# Altium footprint library Analog Devices Data Converters Analog-to-Digital Converters.PcbLib: 279 footprints (part 17 of 18)
Each footprint in its own frame and in the unit in brackets; x right, y up, seen from the top. Pads: shape width x height; smd on the part's side, far side on the other; paste and mask are expansions set on the pad; w line width, h text height; cw(c..) or ccw(c..) is an arc to the next point about the centre after c.
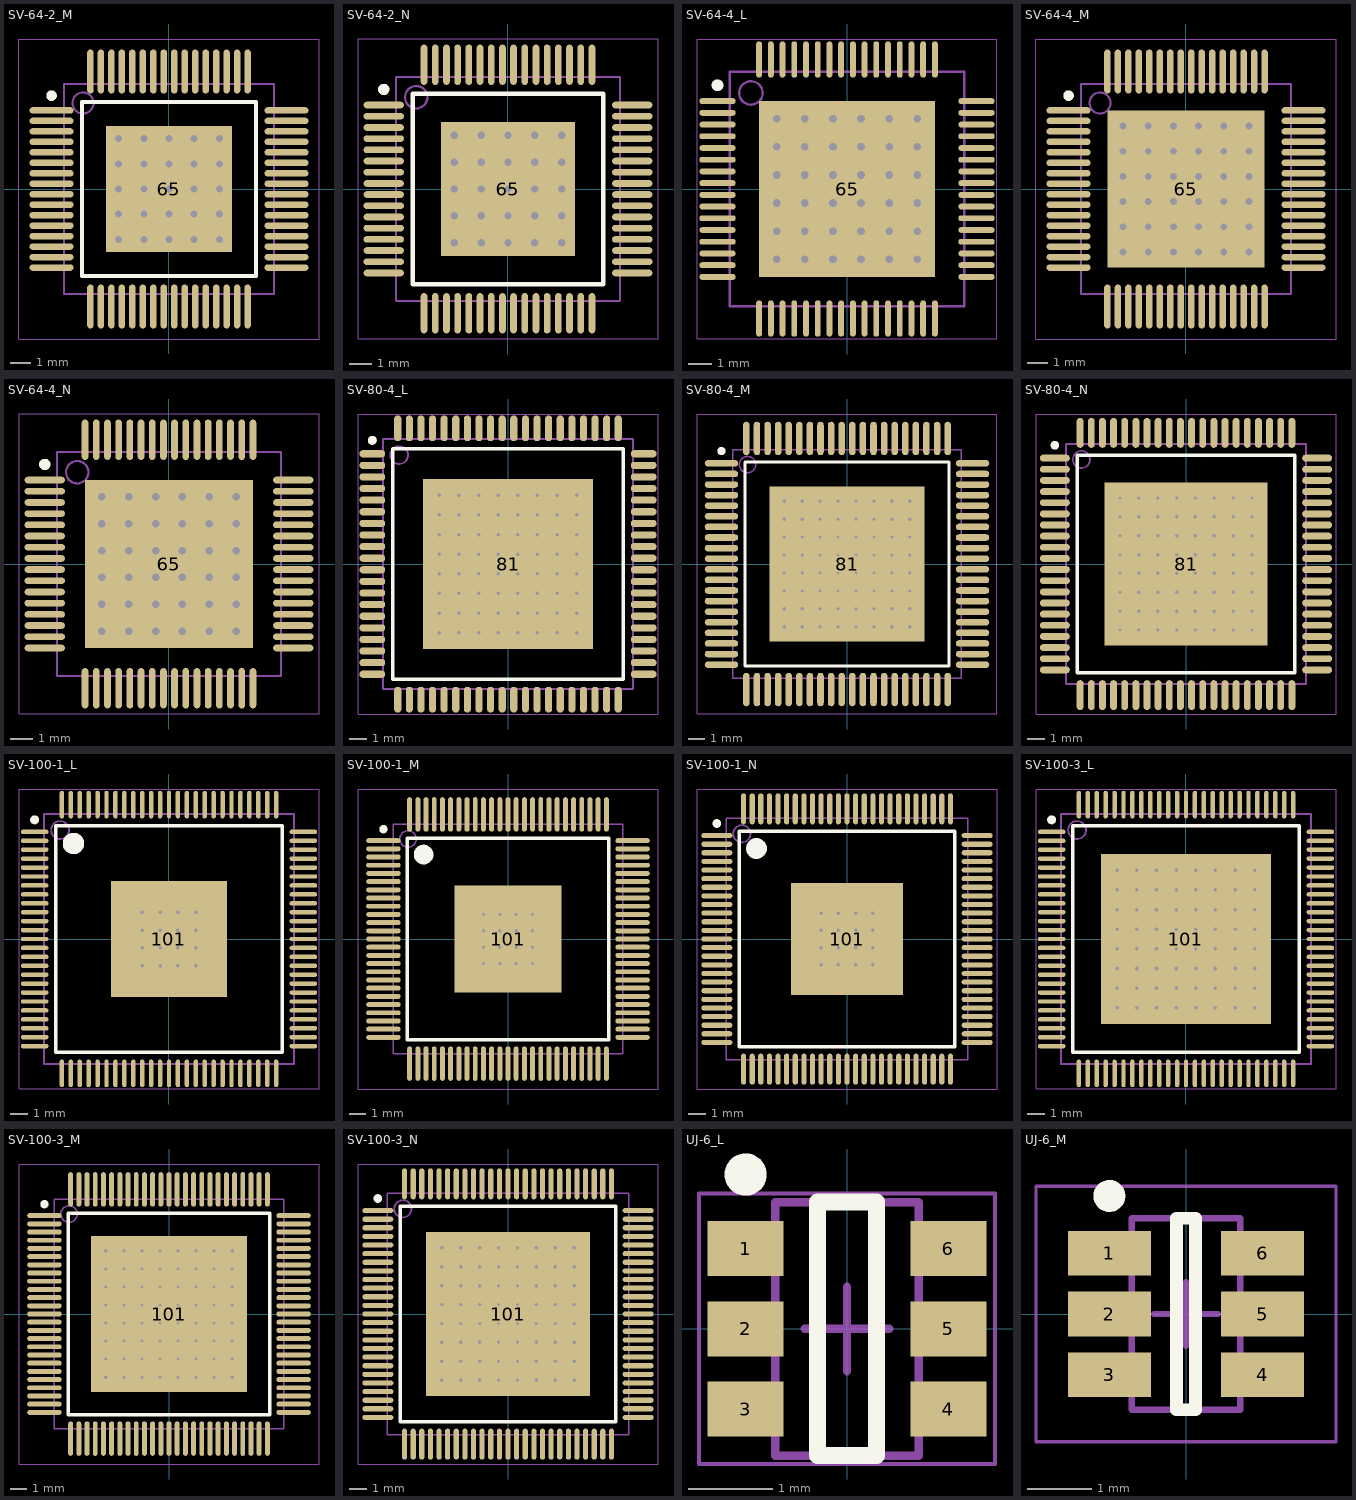
[diagram p16: the footprints below, top view; thin cyan lines are the x and y axes]

## SV-64-2_M [mm] "Thin QFP, 64-Leads, Body 10x10mm, Pitch 0.5mm, Thermal Pad 6.0x6.0mm, IPC Low Density"
height 1.2
pads (65):
  oval 2.1x0.3 smd: 1(-5.6,3.75) 2(-5.6,3.25) 3(-5.6,2.75) 4(-5.6,2.25) 5(-5.6,1.75) 6(-5.6,1.25) 7(-5.6,0.75) 8(-5.6,0.25) 9(-5.6,-0.25) 10(-5.6,-0.75) 11(-5.6,-1.25) 12(-5.6,-1.75) 13(-5.6,-2.25) 14(-5.6,-2.75) 15(-5.6,-3.25) 16(-5.6,-3.75) 33(5.6,-3.75) 34(5.6,-3.25) 35(5.6,-2.75) 36(5.6,-2.25) 37(5.6,-1.75) 38(5.6,-1.25) 39(5.6,-0.75) 40(5.6,-0.25) 41(5.6,0.25) 42(5.6,0.75) 43(5.6,1.25) 44(5.6,1.75) 45(5.6,2.25) 46(5.6,2.75) 47(5.6,3.25) 48(5.6,3.75)
  oval 0.3x2.1 smd: 17(-3.75,-5.6) 18(-3.25,-5.6) 19(-2.75,-5.6) 20(-2.25,-5.6) 21(-1.75,-5.6) 22(-1.25,-5.6) 23(-0.75,-5.6) 24(-0.25,-5.6) 25(0.25,-5.6) 26(0.75,-5.6) 27(1.25,-5.6) 28(1.75,-5.6) 29(2.25,-5.6) 30(2.75,-5.6) 31(3.25,-5.6) 32(3.75,-5.6) 49(3.75,5.6) 50(3.25,5.6) 51(2.75,5.6) 52(2.25,5.6) 53(1.75,5.6) 54(1.25,5.6) 55(0.75,5.6) 56(0.25,5.6) 57(-0.25,5.6) 58(-0.75,5.6) 59(-1.25,5.6) 60(-1.75,5.6) 61(-2.25,5.6) 62(-2.75,5.6) 63(-3.25,5.6) 64(-3.75,5.6)
  rect 6x6 smd: 65(0,0)
via 1.2,-2.4 diameter 0.66 hole 0.33
via 0,-2.4 diameter 0.66 hole 0.33
via -1.2,-2.4 diameter 0.66 hole 0.33
via -2.4,-2.4 diameter 0.66 hole 0.33
via 2.4,-2.4 diameter 0.66 hole 0.33
via 2.4,-1.2 diameter 0.66 hole 0.33
via 2.4,0 diameter 0.66 hole 0.33
via 2.4,1.2 diameter 0.66 hole 0.33
via 2.4,2.4 diameter 0.66 hole 0.33
via -2.4,2.4 diameter 0.66 hole 0.33
via -1.2,2.4 diameter 0.66 hole 0.33
via 0,2.4 diameter 0.66 hole 0.33
via 1.2,2.4 diameter 0.66 hole 0.33
via -2.4,1.2 diameter 0.66 hole 0.33
via -1.2,1.2 diameter 0.66 hole 0.33
via 0,1.2 diameter 0.66 hole 0.33
via 1.2,1.2 diameter 0.66 hole 0.33
via -2.4,0 diameter 0.66 hole 0.33
via -1.2,0 diameter 0.66 hole 0.33
via 0,0 diameter 0.66 hole 0.33
via 1.2,0 diameter 0.66 hole 0.33
via -2.4,-1.2 diameter 0.66 hole 0.33
via -1.2,-1.2 diameter 0.66 hole 0.33
via 0,-1.2 diameter 0.66 hole 0.33
via 1.2,-1.2 diameter 0.66 hole 0.33
Top Overlay:
  circle w0.25: c-5.6,4.45 r0.125
  lines w0.2: -4.15,-4.15 -4.15,4.15 4.15,4.15 4.15,-4.15 -4.15,-4.15
Mechanical 13:
  circle w0.1: c-4.1,4.1 r0.5
  lines w0.1: -5,-5 -5,5 5,5 5,-5 -5,-5
Mechanical 15:
  lines w0.05: -7.15,-7.15 -7.15,7.15 7.15,7.15 7.15,-7.15 -7.15,-7.15
  lines w0.1: -0.5,0 0.5,0 ; 0,-0.5 0,0.5
3D body: height 1.2, standoff 0, extent -5,-5 5,5

## SV-64-2_N [mm] "Thin QFP, 64-Leads, Body 10x10mm, Pitch 0.5mm, Thermal Pad 6.0x6.0mm, IPC Medium Density"
height 1.2
pads (65):
  oval 1.8x0.3 smd: 1(-5.55,3.75) 2(-5.55,3.25) 3(-5.55,2.75) 4(-5.55,2.25) 5(-5.55,1.75) 6(-5.55,1.25) 7(-5.55,0.75) 8(-5.55,0.25) 9(-5.55,-0.25) 10(-5.55,-0.75) 11(-5.55,-1.25) 12(-5.55,-1.75) 13(-5.55,-2.25) 14(-5.55,-2.75) 15(-5.55,-3.25) 16(-5.55,-3.75) 33(5.55,-3.75) 34(5.55,-3.25) 35(5.55,-2.75) 36(5.55,-2.25) 37(5.55,-1.75) 38(5.55,-1.25) 39(5.55,-0.75) 40(5.55,-0.25) 41(5.55,0.25) 42(5.55,0.75) 43(5.55,1.25) 44(5.55,1.75) 45(5.55,2.25) 46(5.55,2.75) 47(5.55,3.25) 48(5.55,3.75)
  oval 0.3x1.8 smd: 17(-3.75,-5.55) 18(-3.25,-5.55) 19(-2.75,-5.55) 20(-2.25,-5.55) 21(-1.75,-5.55) 22(-1.25,-5.55) 23(-0.75,-5.55) 24(-0.25,-5.55) 25(0.25,-5.55) 26(0.75,-5.55) 27(1.25,-5.55) 28(1.75,-5.55) 29(2.25,-5.55) 30(2.75,-5.55) 31(3.25,-5.55) 32(3.75,-5.55) 49(3.75,5.55) 50(3.25,5.55) 51(2.75,5.55) 52(2.25,5.55) 53(1.75,5.55) 54(1.25,5.55) 55(0.75,5.55) 56(0.25,5.55) 57(-0.25,5.55) 58(-0.75,5.55) 59(-1.25,5.55) 60(-1.75,5.55) 61(-2.25,5.55) 62(-2.75,5.55) 63(-3.25,5.55) 64(-3.75,5.55)
  rect 6x6 smd: 65(0,0)
via 1.2,-2.4 diameter 0.66 hole 0.33
via 0,-2.4 diameter 0.66 hole 0.33
via -1.2,-2.4 diameter 0.66 hole 0.33
via -2.4,-2.4 diameter 0.66 hole 0.33
via 2.4,-2.4 diameter 0.66 hole 0.33
via 2.4,-1.2 diameter 0.66 hole 0.33
via 2.4,0 diameter 0.66 hole 0.33
via 2.4,1.2 diameter 0.66 hole 0.33
via 2.4,2.4 diameter 0.66 hole 0.33
via -2.4,2.4 diameter 0.66 hole 0.33
via -1.2,2.4 diameter 0.66 hole 0.33
via 0,2.4 diameter 0.66 hole 0.33
via 1.2,2.4 diameter 0.66 hole 0.33
via -2.4,1.2 diameter 0.66 hole 0.33
via -1.2,1.2 diameter 0.66 hole 0.33
via 0,1.2 diameter 0.66 hole 0.33
via 1.2,1.2 diameter 0.66 hole 0.33
via -2.4,0 diameter 0.66 hole 0.33
via -1.2,0 diameter 0.66 hole 0.33
via 0,0 diameter 0.66 hole 0.33
via 1.2,0 diameter 0.66 hole 0.33
via -2.4,-1.2 diameter 0.66 hole 0.33
via -1.2,-1.2 diameter 0.66 hole 0.33
via 0,-1.2 diameter 0.66 hole 0.33
via 1.2,-1.2 diameter 0.66 hole 0.33
Top Overlay:
  circle w0.25: c-5.55,4.45 r0.125
  lines w0.2: -4.25,-4.25 4.25,-4.25 4.25,4.25 -4.25,4.25 -4.25,-4.25
Mechanical 13:
  circle w0.1: c-4.1,4.1 r0.5
  lines w0.1: -5,-5 5,-5 5,5 -5,5 -5,-5
Mechanical 15:
  lines w0.05: -6.7,-6.7 6.7,-6.7 6.7,6.7 -6.7,6.7 -6.7,-6.7
  lines w0.1: -0.5,0 0.5,0 ; 0,-0.5 0,0.5
3D body: height 1.2, standoff 0, extent -5,-5 5,5

## SV-64-4_L [mm] "Thin QFP, 64-Leads, Body 10x10mm, Pitch 0.5mm, Thermal Pad 7.5x7.5mm, IPC High Density"
height 1.2
pads (65):
  oval 1.55x0.25 smd: 1(-5.525,3.75) 2(-5.525,3.25) 3(-5.525,2.75) 4(-5.525,2.25) 5(-5.525,1.75) 6(-5.525,1.25) 7(-5.525,0.75) 8(-5.525,0.25) 9(-5.525,-0.25) 10(-5.525,-0.75) 11(-5.525,-1.25) 12(-5.525,-1.75) 13(-5.525,-2.25) 14(-5.525,-2.75) 15(-5.525,-3.25) 16(-5.525,-3.75) 33(5.525,-3.75) 34(5.525,-3.25) 35(5.525,-2.75) 36(5.525,-2.25) 37(5.525,-1.75) 38(5.525,-1.25) 39(5.525,-0.75) 40(5.525,-0.25) 41(5.525,0.25) 42(5.525,0.75) 43(5.525,1.25) 44(5.525,1.75) 45(5.525,2.25) 46(5.525,2.75) 47(5.525,3.25) 48(5.525,3.75)
  oval 0.25x1.55 smd: 17(-3.75,-5.525) 18(-3.25,-5.525) 19(-2.75,-5.525) 20(-2.25,-5.525) 21(-1.75,-5.525) 22(-1.25,-5.525) 23(-0.75,-5.525) 24(-0.25,-5.525) 25(0.25,-5.525) 26(0.75,-5.525) 27(1.25,-5.525) 28(1.75,-5.525) 29(2.25,-5.525) 30(2.75,-5.525) 31(3.25,-5.525) 32(3.75,-5.525) 49(3.75,5.525) 50(3.25,5.525) 51(2.75,5.525) 52(2.25,5.525) 53(1.75,5.525) 54(1.25,5.525) 55(0.75,5.525) 56(0.25,5.525) 57(-0.25,5.525) 58(-0.75,5.525) 59(-1.25,5.525) 60(-1.75,5.525) 61(-2.25,5.525) 62(-2.75,5.525) 63(-3.25,5.525) 64(-3.75,5.525)
  rect 7.5x7.5 smd: 65(0,0)
via 0.6,-0.6 diameter 0.66 hole 0.33
via -0.6,-0.6 diameter 0.66 hole 0.33
via -1.8,-0.6 diameter 0.66 hole 0.33
via -3,-0.6 diameter 0.66 hole 0.33
via 0.6,0.6 diameter 0.66 hole 0.33
via -0.6,0.6 diameter 0.66 hole 0.33
via -1.8,0.6 diameter 0.66 hole 0.33
via -3,0.6 diameter 0.66 hole 0.33
via 0.6,1.8 diameter 0.66 hole 0.33
via -0.6,1.8 diameter 0.66 hole 0.33
via -1.8,1.8 diameter 0.66 hole 0.33
via -3,1.8 diameter 0.66 hole 0.33
via 0.6,3 diameter 0.66 hole 0.33
via -0.6,3 diameter 0.66 hole 0.33
via -1.8,3 diameter 0.66 hole 0.33
via -3,3 diameter 0.66 hole 0.33
via 1.8,3 diameter 0.66 hole 0.33
via 1.8,1.8 diameter 0.66 hole 0.33
via 1.8,0.6 diameter 0.66 hole 0.33
via 1.8,-0.6 diameter 0.66 hole 0.33
via 1.8,-1.8 diameter 0.66 hole 0.33
via -3,-1.8 diameter 0.66 hole 0.33
via -1.8,-1.8 diameter 0.66 hole 0.33
via -0.6,-1.8 diameter 0.66 hole 0.33
via 0.6,-1.8 diameter 0.66 hole 0.33
via 3,-1.8 diameter 0.66 hole 0.33
via 3,3 diameter 0.66 hole 0.33
via 3,1.8 diameter 0.66 hole 0.33
via 3,0.6 diameter 0.66 hole 0.33
via 3,-0.6 diameter 0.66 hole 0.33
via 3,-3 diameter 0.66 hole 0.33
via 0.6,-3 diameter 0.66 hole 0.33
via -0.6,-3 diameter 0.66 hole 0.33
via -1.8,-3 diameter 0.66 hole 0.33
via -3,-3 diameter 0.66 hole 0.33
via 1.8,-3 diameter 0.66 hole 0.33
Top Overlay:
  circle w0.25: c-5.525,4.425 r0.125
Mechanical 13:
  circle w0.1: c-4.1,4.1 r0.5
  lines w0.1: -5,-5 -5,5 5,5 5,-5 -5,-5
Mechanical 15:
  lines w0.05: -6.4,-6.4 -6.4,6.4 6.4,6.4 6.4,-6.4 -6.4,-6.4
  lines w0.1: -0.5,0 0.5,0 ; 0,-0.5 0,0.5
3D body: height 1.2, standoff 0.05, extent -5,-5 5,5

## SV-64-4_M [mm] "Thin QFP, 64-Leads, Body 10x10mm, Pitch 0.5mm, Thermal Pad 7.5x7.5mm, IPC Low Density"
height 1.2
pads (65):
  oval 2.1x0.3 smd: 1(-5.6,3.75) 2(-5.6,3.25) 3(-5.6,2.75) 4(-5.6,2.25) 5(-5.6,1.75) 6(-5.6,1.25) 7(-5.6,0.75) 8(-5.6,0.25) 9(-5.6,-0.25) 10(-5.6,-0.75) 11(-5.6,-1.25) 12(-5.6,-1.75) 13(-5.6,-2.25) 14(-5.6,-2.75) 15(-5.6,-3.25) 16(-5.6,-3.75) 33(5.6,-3.75) 34(5.6,-3.25) 35(5.6,-2.75) 36(5.6,-2.25) 37(5.6,-1.75) 38(5.6,-1.25) 39(5.6,-0.75) 40(5.6,-0.25) 41(5.6,0.25) 42(5.6,0.75) 43(5.6,1.25) 44(5.6,1.75) 45(5.6,2.25) 46(5.6,2.75) 47(5.6,3.25) 48(5.6,3.75)
  oval 0.3x2.1 smd: 17(-3.75,-5.6) 18(-3.25,-5.6) 19(-2.75,-5.6) 20(-2.25,-5.6) 21(-1.75,-5.6) 22(-1.25,-5.6) 23(-0.75,-5.6) 24(-0.25,-5.6) 25(0.25,-5.6) 26(0.75,-5.6) 27(1.25,-5.6) 28(1.75,-5.6) 29(2.25,-5.6) 30(2.75,-5.6) 31(3.25,-5.6) 32(3.75,-5.6) 49(3.75,5.6) 50(3.25,5.6) 51(2.75,5.6) 52(2.25,5.6) 53(1.75,5.6) 54(1.25,5.6) 55(0.75,5.6) 56(0.25,5.6) 57(-0.25,5.6) 58(-0.75,5.6) 59(-1.25,5.6) 60(-1.75,5.6) 61(-2.25,5.6) 62(-2.75,5.6) 63(-3.25,5.6) 64(-3.75,5.6)
  rect 7.5x7.5 smd: 65(0,0)
via 0.6,-0.6 diameter 0.66 hole 0.33
via -0.6,-0.6 diameter 0.66 hole 0.33
via -1.8,-0.6 diameter 0.66 hole 0.33
via -3,-0.6 diameter 0.66 hole 0.33
via 0.6,0.6 diameter 0.66 hole 0.33
via -0.6,0.6 diameter 0.66 hole 0.33
via -1.8,0.6 diameter 0.66 hole 0.33
via -3,0.6 diameter 0.66 hole 0.33
via 0.6,1.8 diameter 0.66 hole 0.33
via -0.6,1.8 diameter 0.66 hole 0.33
via -1.8,1.8 diameter 0.66 hole 0.33
via -3,1.8 diameter 0.66 hole 0.33
via 0.6,3 diameter 0.66 hole 0.33
via -0.6,3 diameter 0.66 hole 0.33
via -1.8,3 diameter 0.66 hole 0.33
via -3,3 diameter 0.66 hole 0.33
via 1.8,3 diameter 0.66 hole 0.33
via 1.8,1.8 diameter 0.66 hole 0.33
via 1.8,0.6 diameter 0.66 hole 0.33
via 1.8,-0.6 diameter 0.66 hole 0.33
via 1.8,-1.8 diameter 0.66 hole 0.33
via -3,-1.8 diameter 0.66 hole 0.33
via -1.8,-1.8 diameter 0.66 hole 0.33
via -0.6,-1.8 diameter 0.66 hole 0.33
via 0.6,-1.8 diameter 0.66 hole 0.33
via 3,-1.8 diameter 0.66 hole 0.33
via 3,3 diameter 0.66 hole 0.33
via 3,1.8 diameter 0.66 hole 0.33
via 3,0.6 diameter 0.66 hole 0.33
via 3,-0.6 diameter 0.66 hole 0.33
via 3,-3 diameter 0.66 hole 0.33
via 0.6,-3 diameter 0.66 hole 0.33
via -0.6,-3 diameter 0.66 hole 0.33
via -1.8,-3 diameter 0.66 hole 0.33
via -3,-3 diameter 0.66 hole 0.33
via 1.8,-3 diameter 0.66 hole 0.33
Top Overlay:
  circle w0.25: c-5.6,4.45 r0.125
Mechanical 13:
  circle w0.1: c-4.1,4.1 r0.5
  lines w0.1: -5,-5 -5,5 5,5 5,-5 -5,-5
Mechanical 15:
  lines w0.05: -7.15,-7.15 -7.15,7.15 7.15,7.15 7.15,-7.15 -7.15,-7.15
  lines w0.1: -0.5,0 0.5,0 ; 0,-0.5 0,0.5
3D body: height 1.2, standoff 0.05, extent -5,-5 5,5

## SV-64-4_N [mm] "Thin QFP, 64-Leads, Body 10x10mm, Pitch 0.5mm, Thermal Pad 7.5x7.5mm, IPC Medium Density"
height 1.2
pads (65):
  oval 1.8x0.3 smd: 1(-5.55,3.75) 2(-5.55,3.25) 3(-5.55,2.75) 4(-5.55,2.25) 5(-5.55,1.75) 6(-5.55,1.25) 7(-5.55,0.75) 8(-5.55,0.25) 9(-5.55,-0.25) 10(-5.55,-0.75) 11(-5.55,-1.25) 12(-5.55,-1.75) 13(-5.55,-2.25) 14(-5.55,-2.75) 15(-5.55,-3.25) 16(-5.55,-3.75) 33(5.55,-3.75) 34(5.55,-3.25) 35(5.55,-2.75) 36(5.55,-2.25) 37(5.55,-1.75) 38(5.55,-1.25) 39(5.55,-0.75) 40(5.55,-0.25) 41(5.55,0.25) 42(5.55,0.75) 43(5.55,1.25) 44(5.55,1.75) 45(5.55,2.25) 46(5.55,2.75) 47(5.55,3.25) 48(5.55,3.75)
  oval 0.3x1.8 smd: 17(-3.75,-5.55) 18(-3.25,-5.55) 19(-2.75,-5.55) 20(-2.25,-5.55) 21(-1.75,-5.55) 22(-1.25,-5.55) 23(-0.75,-5.55) 24(-0.25,-5.55) 25(0.25,-5.55) 26(0.75,-5.55) 27(1.25,-5.55) 28(1.75,-5.55) 29(2.25,-5.55) 30(2.75,-5.55) 31(3.25,-5.55) 32(3.75,-5.55) 49(3.75,5.55) 50(3.25,5.55) 51(2.75,5.55) 52(2.25,5.55) 53(1.75,5.55) 54(1.25,5.55) 55(0.75,5.55) 56(0.25,5.55) 57(-0.25,5.55) 58(-0.75,5.55) 59(-1.25,5.55) 60(-1.75,5.55) 61(-2.25,5.55) 62(-2.75,5.55) 63(-3.25,5.55) 64(-3.75,5.55)
  rect 7.5x7.5 smd: 65(0,0)
via 1.8,-3 diameter 0.66 hole 0.33
via -3,-3 diameter 0.66 hole 0.33
via -1.8,-3 diameter 0.66 hole 0.33
via -0.6,-3 diameter 0.66 hole 0.33
via 0.6,-3 diameter 0.66 hole 0.33
via 3,-3 diameter 0.66 hole 0.33
via 3,-0.6 diameter 0.66 hole 0.33
via 3,0.6 diameter 0.66 hole 0.33
via 3,1.8 diameter 0.66 hole 0.33
via 3,3 diameter 0.66 hole 0.33
via 3,-1.8 diameter 0.66 hole 0.33
via 0.6,-1.8 diameter 0.66 hole 0.33
via -0.6,-1.8 diameter 0.66 hole 0.33
via -1.8,-1.8 diameter 0.66 hole 0.33
via -3,-1.8 diameter 0.66 hole 0.33
via 1.8,-1.8 diameter 0.66 hole 0.33
via 1.8,-0.6 diameter 0.66 hole 0.33
via 1.8,0.6 diameter 0.66 hole 0.33
via 1.8,1.8 diameter 0.66 hole 0.33
via 1.8,3 diameter 0.66 hole 0.33
via -3,3 diameter 0.66 hole 0.33
via -1.8,3 diameter 0.66 hole 0.33
via -0.6,3 diameter 0.66 hole 0.33
via 0.6,3 diameter 0.66 hole 0.33
via -3,1.8 diameter 0.66 hole 0.33
via -1.8,1.8 diameter 0.66 hole 0.33
via -0.6,1.8 diameter 0.66 hole 0.33
via 0.6,1.8 diameter 0.66 hole 0.33
via -3,0.6 diameter 0.66 hole 0.33
via -1.8,0.6 diameter 0.66 hole 0.33
via -0.6,0.6 diameter 0.66 hole 0.33
via 0.6,0.6 diameter 0.66 hole 0.33
via -3,-0.6 diameter 0.66 hole 0.33
via -1.8,-0.6 diameter 0.66 hole 0.33
via -0.6,-0.6 diameter 0.66 hole 0.33
via 0.6,-0.6 diameter 0.66 hole 0.33
Top Overlay:
  circle w0.25: c-5.55,4.45 r0.125
Mechanical 13:
  circle w0.1: c-4.1,4.1 r0.5
  lines w0.1: -5,-5 -5,5 5,5 5,-5 -5,-5
Mechanical 15:
  lines w0.05: -6.7,-6.7 -6.7,6.7 6.7,6.7 6.7,-6.7 -6.7,-6.7
  lines w0.1: -0.5,0 0.5,0 ; 0,-0.5 0,0.5
3D body: height 1.2, standoff 0.05, extent -5,-5 5,5

## SV-80-4_L [mm] "Thin QFP, 80-Leads, Body 14 x 14mm, Pitch 0.65mm, Thermal Pad 9.5x9.5mm, IPC High Density"
height 1.2
pads (81):
  oval 1.45x0.4 smd: 1(-7.6,6.175) 2(-7.6,5.525) 3(-7.6,4.875) 4(-7.6,4.225) 5(-7.6,3.575) 6(-7.6,2.925) 7(-7.6,2.275) 8(-7.6,1.625) 9(-7.6,0.975) 10(-7.6,0.325) 11(-7.6,-0.325) 12(-7.6,-0.975) 13(-7.6,-1.625) 14(-7.6,-2.275) 15(-7.6,-2.925) 16(-7.6,-3.575) 17(-7.6,-4.225) 18(-7.6,-4.875) 19(-7.6,-5.525) 20(-7.6,-6.175) 41(7.6,-6.175) 42(7.6,-5.525) 43(7.6,-4.875) 44(7.6,-4.225) 45(7.6,-3.575) 46(7.6,-2.925) 47(7.6,-2.275) 48(7.6,-1.625) 49(7.6,-0.975) 50(7.6,-0.325) 51(7.6,0.325) 52(7.6,0.975) 53(7.6,1.625) 54(7.6,2.275) 55(7.6,2.925) 56(7.6,3.575) 57(7.6,4.225) 58(7.6,4.875) 59(7.6,5.525) 60(7.6,6.175)
  oval 0.4x1.45 smd: 21(-6.175,-7.6) 22(-5.525,-7.6) 23(-4.875,-7.6) 24(-4.225,-7.6) 25(-3.575,-7.6) 26(-2.925,-7.6) 27(-2.275,-7.6) 28(-1.625,-7.6) 29(-0.975,-7.6) 30(-0.325,-7.6) 31(0.325,-7.6) 32(0.975,-7.6) 33(1.625,-7.6) 34(2.275,-7.6) 35(2.925,-7.6) 36(3.575,-7.6) 37(4.225,-7.6) 38(4.875,-7.6) 39(5.525,-7.6) 40(6.175,-7.6) 61(6.175,7.6) 62(5.525,7.6) 63(4.875,7.6) 64(4.225,7.6) 65(3.575,7.6) 66(2.925,7.6) 67(2.275,7.6) 68(1.625,7.6) 69(0.975,7.6) 70(0.325,7.6) 71(-0.325,7.6) 72(-0.975,7.6) 73(-1.625,7.6) 74(-2.275,7.6) 75(-2.925,7.6) 76(-3.575,7.6) 77(-4.225,7.6) 78(-4.875,7.6) 79(-5.525,7.6) 80(-6.175,7.6)
  rect 9.5x9.5 smd: 81(0,0)
via -3.85,0.55 diameter 0.5 hole 0.2
via -3.85,-0.55 diameter 0.5 hole 0.2
via -3.85,1.65 diameter 0.5 hole 0.2
via -3.85,2.75 diameter 0.5 hole 0.2
via -3.85,3.85 diameter 0.5 hole 0.2
via -3.85,-1.65 diameter 0.5 hole 0.2
via -3.85,-2.75 diameter 0.5 hole 0.2
via -3.85,-3.85 diameter 0.5 hole 0.2
via -2.75,-3.85 diameter 0.5 hole 0.2
via -2.75,-2.75 diameter 0.5 hole 0.2
via -2.75,-1.65 diameter 0.5 hole 0.2
via -2.75,-0.55 diameter 0.5 hole 0.2
via -2.75,0.55 diameter 0.5 hole 0.2
via -2.75,1.65 diameter 0.5 hole 0.2
via -2.75,2.75 diameter 0.5 hole 0.2
via -2.75,3.85 diameter 0.5 hole 0.2
via -1.65,3.85 diameter 0.5 hole 0.2
via -1.65,2.75 diameter 0.5 hole 0.2
via -1.65,1.65 diameter 0.5 hole 0.2
via -1.65,0.55 diameter 0.5 hole 0.2
via -1.65,-0.55 diameter 0.5 hole 0.2
via -1.65,-1.65 diameter 0.5 hole 0.2
via -1.65,-2.75 diameter 0.5 hole 0.2
via -1.65,-3.85 diameter 0.5 hole 0.2
via -0.55,-3.85 diameter 0.5 hole 0.2
via -0.55,-2.75 diameter 0.5 hole 0.2
via -0.55,-1.65 diameter 0.5 hole 0.2
via -0.55,-0.55 diameter 0.5 hole 0.2
via -0.55,0.55 diameter 0.5 hole 0.2
via -0.55,1.65 diameter 0.5 hole 0.2
via -0.55,2.75 diameter 0.5 hole 0.2
via -0.55,3.85 diameter 0.5 hole 0.2
via 3.85,3.85 diameter 0.5 hole 0.2
via 3.85,2.75 diameter 0.5 hole 0.2
via 3.85,1.65 diameter 0.5 hole 0.2
via 3.85,0.55 diameter 0.5 hole 0.2
via 3.85,-0.55 diameter 0.5 hole 0.2
via 3.85,-1.65 diameter 0.5 hole 0.2
via 3.85,-2.75 diameter 0.5 hole 0.2
via 3.85,-3.85 diameter 0.5 hole 0.2
via 2.75,-3.85 diameter 0.5 hole 0.2
via 2.75,-2.75 diameter 0.5 hole 0.2
via 2.75,-1.65 diameter 0.5 hole 0.2
via 2.75,-0.55 diameter 0.5 hole 0.2
via 2.75,0.55 diameter 0.5 hole 0.2
via 2.75,1.65 diameter 0.5 hole 0.2
via 2.75,2.75 diameter 0.5 hole 0.2
via 2.75,3.85 diameter 0.5 hole 0.2
via 1.65,3.85 diameter 0.5 hole 0.2
via 1.65,2.75 diameter 0.5 hole 0.2
via 1.65,1.65 diameter 0.5 hole 0.2
via 1.65,0.55 diameter 0.5 hole 0.2
via 1.65,-0.55 diameter 0.5 hole 0.2
via 1.65,-1.65 diameter 0.5 hole 0.2
via 1.65,-2.75 diameter 0.5 hole 0.2
via 1.65,-3.85 diameter 0.5 hole 0.2
via 0.55,-3.85 diameter 0.5 hole 0.2
via 0.55,-2.75 diameter 0.5 hole 0.2
via 0.55,-1.65 diameter 0.5 hole 0.2
via 0.55,3.85 diameter 0.5 hole 0.2
via 0.55,2.75 diameter 0.5 hole 0.2
via 0.55,1.65 diameter 0.5 hole 0.2
via 0.55,-0.55 diameter 0.5 hole 0.2
via 0.55,0.55 diameter 0.5 hole 0.2
Top Overlay:
  circle w0.25: c-7.6,6.925 r0.125
  lines w0.2: -6.45,-6.45 6.45,-6.45 6.45,6.45 -6.45,6.45 -6.45,-6.45
Mechanical 13:
  circle w0.1: c-6.1,6.1 r0.5
  lines w0.1: -7,-7 7,-7 7,7 -7,7 -7,-7
Mechanical 15:
  lines w0.05: -8.4,-8.4 8.4,-8.4 8.4,8.4 -8.4,8.4 -8.4,-8.4
  lines w0.1: -4.4,-0.5 -4.4,0.5 ; -0.5,0 0.5,0 ; 0,-0.5 0,0.5
3D body: height 1.2, standoff 0, extent -7,-7 7,7

## SV-80-4_M [mm] "Thin QFP, 80-Leads, Body 14 x 14mm, Pitch 0.65mm, Thermal Pad 9.5x9.5mm, IPC Low Density"
height 1.2
pads (81):
  oval 2.05x0.4 smd: 1(-7.7,6.175) 2(-7.7,5.525) 3(-7.7,4.875) 4(-7.7,4.225) 5(-7.7,3.575) 6(-7.7,2.925) 7(-7.7,2.275) 8(-7.7,1.625) 9(-7.7,0.975) 10(-7.7,0.325) 11(-7.7,-0.325) 12(-7.7,-0.975) 13(-7.7,-1.625) 14(-7.7,-2.275) 15(-7.7,-2.925) 16(-7.7,-3.575) 17(-7.7,-4.225) 18(-7.7,-4.875) 19(-7.7,-5.525) 20(-7.7,-6.175) 41(7.7,-6.175) 42(7.7,-5.525) 43(7.7,-4.875) 44(7.7,-4.225) 45(7.7,-3.575) 46(7.7,-2.925) 47(7.7,-2.275) 48(7.7,-1.625) 49(7.7,-0.975) 50(7.7,-0.325) 51(7.7,0.325) 52(7.7,0.975) 53(7.7,1.625) 54(7.7,2.275) 55(7.7,2.925) 56(7.7,3.575) 57(7.7,4.225) 58(7.7,4.875) 59(7.7,5.525) 60(7.7,6.175)
  oval 0.4x2.05 smd: 21(-6.175,-7.7) 22(-5.525,-7.7) 23(-4.875,-7.7) 24(-4.225,-7.7) 25(-3.575,-7.7) 26(-2.925,-7.7) 27(-2.275,-7.7) 28(-1.625,-7.7) 29(-0.975,-7.7) 30(-0.325,-7.7) 31(0.325,-7.7) 32(0.975,-7.7) 33(1.625,-7.7) 34(2.275,-7.7) 35(2.925,-7.7) 36(3.575,-7.7) 37(4.225,-7.7) 38(4.875,-7.7) 39(5.525,-7.7) 40(6.175,-7.7) 61(6.175,7.7) 62(5.525,7.7) 63(4.875,7.7) 64(4.225,7.7) 65(3.575,7.7) 66(2.925,7.7) 67(2.275,7.7) 68(1.625,7.7) 69(0.975,7.7) 70(0.325,7.7) 71(-0.325,7.7) 72(-0.975,7.7) 73(-1.625,7.7) 74(-2.275,7.7) 75(-2.925,7.7) 76(-3.575,7.7) 77(-4.225,7.7) 78(-4.875,7.7) 79(-5.525,7.7) 80(-6.175,7.7)
  rect 9.5x9.5 smd: 81(0,0)
via -3.85,0.55 diameter 0.5 hole 0.2
via -3.85,-0.55 diameter 0.5 hole 0.2
via -3.85,1.65 diameter 0.5 hole 0.2
via -3.85,2.75 diameter 0.5 hole 0.2
via -3.85,3.85 diameter 0.5 hole 0.2
via -3.85,-1.65 diameter 0.5 hole 0.2
via -3.85,-2.75 diameter 0.5 hole 0.2
via -3.85,-3.85 diameter 0.5 hole 0.2
via -2.75,-3.85 diameter 0.5 hole 0.2
via -2.75,-2.75 diameter 0.5 hole 0.2
via -2.75,-1.65 diameter 0.5 hole 0.2
via -2.75,-0.55 diameter 0.5 hole 0.2
via -2.75,0.55 diameter 0.5 hole 0.2
via -2.75,1.65 diameter 0.5 hole 0.2
via -2.75,2.75 diameter 0.5 hole 0.2
via -2.75,3.85 diameter 0.5 hole 0.2
via -1.65,3.85 diameter 0.5 hole 0.2
via -1.65,2.75 diameter 0.5 hole 0.2
via -1.65,1.65 diameter 0.5 hole 0.2
via -1.65,0.55 diameter 0.5 hole 0.2
via -1.65,-0.55 diameter 0.5 hole 0.2
via -1.65,-1.65 diameter 0.5 hole 0.2
via -1.65,-2.75 diameter 0.5 hole 0.2
via -1.65,-3.85 diameter 0.5 hole 0.2
via -0.55,-3.85 diameter 0.5 hole 0.2
via -0.55,-2.75 diameter 0.5 hole 0.2
via -0.55,-1.65 diameter 0.5 hole 0.2
via -0.55,-0.55 diameter 0.5 hole 0.2
via -0.55,0.55 diameter 0.5 hole 0.2
via -0.55,1.65 diameter 0.5 hole 0.2
via -0.55,2.75 diameter 0.5 hole 0.2
via -0.55,3.85 diameter 0.5 hole 0.2
via 3.85,3.85 diameter 0.5 hole 0.2
via 3.85,2.75 diameter 0.5 hole 0.2
via 3.85,1.65 diameter 0.5 hole 0.2
via 3.85,0.55 diameter 0.5 hole 0.2
via 3.85,-0.55 diameter 0.5 hole 0.2
via 3.85,-1.65 diameter 0.5 hole 0.2
via 3.85,-2.75 diameter 0.5 hole 0.2
via 3.85,-3.85 diameter 0.5 hole 0.2
via 2.75,-3.85 diameter 0.5 hole 0.2
via 2.75,-2.75 diameter 0.5 hole 0.2
via 2.75,-1.65 diameter 0.5 hole 0.2
via 2.75,-0.55 diameter 0.5 hole 0.2
via 2.75,0.55 diameter 0.5 hole 0.2
via 2.75,1.65 diameter 0.5 hole 0.2
via 2.75,2.75 diameter 0.5 hole 0.2
via 2.75,3.85 diameter 0.5 hole 0.2
via 1.65,3.85 diameter 0.5 hole 0.2
via 1.65,2.75 diameter 0.5 hole 0.2
via 1.65,1.65 diameter 0.5 hole 0.2
via 1.65,0.55 diameter 0.5 hole 0.2
via 1.65,-0.55 diameter 0.5 hole 0.2
via 1.65,-1.65 diameter 0.5 hole 0.2
via 1.65,-2.75 diameter 0.5 hole 0.2
via 1.65,-3.85 diameter 0.5 hole 0.2
via 0.55,-3.85 diameter 0.5 hole 0.2
via 0.55,-2.75 diameter 0.5 hole 0.2
via 0.55,-1.65 diameter 0.5 hole 0.2
via 0.55,3.85 diameter 0.5 hole 0.2
via 0.55,2.75 diameter 0.5 hole 0.2
via 0.55,1.65 diameter 0.5 hole 0.2
via 0.55,-0.55 diameter 0.5 hole 0.2
via 0.55,0.55 diameter 0.5 hole 0.2
Top Overlay:
  circle w0.25: c-7.7,6.925 r0.125
  lines w0.2: -6.25,-6.25 6.25,-6.25 6.25,6.25 -6.25,6.25 -6.25,-6.25
Mechanical 13:
  circle w0.1: c-6.1,6.1 r0.5
  lines w0.1: -7,-7 7,-7 7,7 -7,7 -7,-7
Mechanical 15:
  lines w0.05: -9.2,-9.2 9.2,-9.2 9.2,9.2 -9.2,9.2 -9.2,-9.2
  lines w0.1: -0.5,0 0.5,0 ; 0,-0.5 0,0.5
3D body: height 1.2, standoff 0, extent -7,-7 7,7

## SV-80-4_N [mm] "Thin QFP, 80-Leads, Body 14 x 14mm, Pitch 0.65mm, Thermal Pad 9.5x9.5mm, IPC Medium Density"
height 1.2
pads (81):
  oval 1.75x0.4 smd: 1(-7.65,6.175) 2(-7.65,5.525) 3(-7.65,4.875) 4(-7.65,4.225) 5(-7.65,3.575) 6(-7.65,2.925) 7(-7.65,2.275) 8(-7.65,1.625) 9(-7.65,0.975) 10(-7.65,0.325) 11(-7.65,-0.325) 12(-7.65,-0.975) 13(-7.65,-1.625) 14(-7.65,-2.275) 15(-7.65,-2.925) 16(-7.65,-3.575) 17(-7.65,-4.225) 18(-7.65,-4.875) 19(-7.65,-5.525) 20(-7.65,-6.175) 41(7.65,-6.175) 42(7.65,-5.525) 43(7.65,-4.875) 44(7.65,-4.225) 45(7.65,-3.575) 46(7.65,-2.925) 47(7.65,-2.275) 48(7.65,-1.625) 49(7.65,-0.975) 50(7.65,-0.325) 51(7.65,0.325) 52(7.65,0.975) 53(7.65,1.625) 54(7.65,2.275) 55(7.65,2.925) 56(7.65,3.575) 57(7.65,4.225) 58(7.65,4.875) 59(7.65,5.525) 60(7.65,6.175)
  oval 0.4x1.75 smd: 21(-6.175,-7.65) 22(-5.525,-7.65) 23(-4.875,-7.65) 24(-4.225,-7.65) 25(-3.575,-7.65) 26(-2.925,-7.65) 27(-2.275,-7.65) 28(-1.625,-7.65) 29(-0.975,-7.65) 30(-0.325,-7.65) 31(0.325,-7.65) 32(0.975,-7.65) 33(1.625,-7.65) 34(2.275,-7.65) 35(2.925,-7.65) 36(3.575,-7.65) 37(4.225,-7.65) 38(4.875,-7.65) 39(5.525,-7.65) 40(6.175,-7.65) 61(6.175,7.65) 62(5.525,7.65) 63(4.875,7.65) 64(4.225,7.65) 65(3.575,7.65) 66(2.925,7.65) 67(2.275,7.65) 68(1.625,7.65) 69(0.975,7.65) 70(0.325,7.65) 71(-0.325,7.65) 72(-0.975,7.65) 73(-1.625,7.65) 74(-2.275,7.65) 75(-2.925,7.65) 76(-3.575,7.65) 77(-4.225,7.65) 78(-4.875,7.65) 79(-5.525,7.65) 80(-6.175,7.65)
  rect 9.5x9.5 smd: 81(0,0)
via 0.55,0.55 diameter 0.5 hole 0.2
via 0.55,-0.55 diameter 0.5 hole 0.2
via 0.55,1.65 diameter 0.5 hole 0.2
via 0.55,2.75 diameter 0.5 hole 0.2
via 0.55,3.85 diameter 0.5 hole 0.2
via 0.55,-1.65 diameter 0.5 hole 0.2
via 0.55,-2.75 diameter 0.5 hole 0.2
via 0.55,-3.85 diameter 0.5 hole 0.2
via 1.65,-3.85 diameter 0.5 hole 0.2
via 1.65,-2.75 diameter 0.5 hole 0.2
via 1.65,-1.65 diameter 0.5 hole 0.2
via 1.65,-0.55 diameter 0.5 hole 0.2
via 1.65,0.55 diameter 0.5 hole 0.2
via 1.65,1.65 diameter 0.5 hole 0.2
via 1.65,2.75 diameter 0.5 hole 0.2
via 1.65,3.85 diameter 0.5 hole 0.2
via 2.75,3.85 diameter 0.5 hole 0.2
via 2.75,2.75 diameter 0.5 hole 0.2
via 2.75,1.65 diameter 0.5 hole 0.2
via 2.75,0.55 diameter 0.5 hole 0.2
via 2.75,-0.55 diameter 0.5 hole 0.2
via 2.75,-1.65 diameter 0.5 hole 0.2
via 2.75,-2.75 diameter 0.5 hole 0.2
via 2.75,-3.85 diameter 0.5 hole 0.2
via 3.85,-3.85 diameter 0.5 hole 0.2
via 3.85,-2.75 diameter 0.5 hole 0.2
via 3.85,-1.65 diameter 0.5 hole 0.2
via 3.85,-0.55 diameter 0.5 hole 0.2
via 3.85,0.55 diameter 0.5 hole 0.2
via 3.85,1.65 diameter 0.5 hole 0.2
via 3.85,2.75 diameter 0.5 hole 0.2
via 3.85,3.85 diameter 0.5 hole 0.2
via -0.55,3.85 diameter 0.5 hole 0.2
via -0.55,2.75 diameter 0.5 hole 0.2
via -0.55,1.65 diameter 0.5 hole 0.2
via -0.55,0.55 diameter 0.5 hole 0.2
via -0.55,-0.55 diameter 0.5 hole 0.2
via -0.55,-1.65 diameter 0.5 hole 0.2
via -0.55,-2.75 diameter 0.5 hole 0.2
via -0.55,-3.85 diameter 0.5 hole 0.2
via -1.65,-3.85 diameter 0.5 hole 0.2
via -1.65,-2.75 diameter 0.5 hole 0.2
via -1.65,-1.65 diameter 0.5 hole 0.2
via -1.65,-0.55 diameter 0.5 hole 0.2
via -1.65,0.55 diameter 0.5 hole 0.2
via -1.65,1.65 diameter 0.5 hole 0.2
via -1.65,2.75 diameter 0.5 hole 0.2
via -1.65,3.85 diameter 0.5 hole 0.2
via -2.75,3.85 diameter 0.5 hole 0.2
via -2.75,2.75 diameter 0.5 hole 0.2
via -2.75,1.65 diameter 0.5 hole 0.2
via -2.75,0.55 diameter 0.5 hole 0.2
via -2.75,-0.55 diameter 0.5 hole 0.2
via -2.75,-1.65 diameter 0.5 hole 0.2
via -2.75,-2.75 diameter 0.5 hole 0.2
via -2.75,-3.85 diameter 0.5 hole 0.2
via -3.85,-3.85 diameter 0.5 hole 0.2
via -3.85,-2.75 diameter 0.5 hole 0.2
via -3.85,-1.65 diameter 0.5 hole 0.2
via -3.85,3.85 diameter 0.5 hole 0.2
via -3.85,2.75 diameter 0.5 hole 0.2
via -3.85,1.65 diameter 0.5 hole 0.2
via -3.85,-0.55 diameter 0.5 hole 0.2
via -3.85,0.55 diameter 0.5 hole 0.2
Top Overlay:
  circle w0.25: c-7.65,6.925 r0.125
  lines w0.2: -6.35,-6.35 6.35,-6.35 6.35,6.35 -6.35,6.35 -6.35,-6.35
Mechanical 13:
  circle w0.1: c-6.1,6.1 r0.5
  lines w0.1: -7,-7 7,-7 7,7 -7,7 -7,-7
Mechanical 15:
  lines w0.05: -8.75,-8.75 8.75,-8.75 8.75,8.75 -8.75,8.75 -8.75,-8.75
  lines w0.1: -0.5,0 0.5,0 ; 0,-0.5 0,0.5
3D body: height 1.2, standoff 0, extent -7,-7 7,7

## SV-100-1_L [mm] "Thin QFP, 100-Leads, Body 14x14mm, Pitch 0.5mm, Thermal Pad 6.5x6.5mm, IPC High Density"
height 1.2
pads (101):
  oval 1.55x0.25 smd: 1(-7.525,6) 2(-7.525,5.5) 3(-7.525,5) 4(-7.525,4.5) 5(-7.525,4) 6(-7.525,3.5) 7(-7.525,3) 8(-7.525,2.5) 9(-7.525,2) 10(-7.525,1.5) 11(-7.525,1) 12(-7.525,0.5) 13(-7.525,0) 14(-7.525,-0.5) 15(-7.525,-1) 16(-7.525,-1.5) 17(-7.525,-2) 18(-7.525,-2.5) 19(-7.525,-3) 20(-7.525,-3.5) 21(-7.525,-4) 22(-7.525,-4.5) 23(-7.525,-5) 24(-7.525,-5.5) 25(-7.525,-6) 51(7.525,-6) 52(7.525,-5.5) 53(7.525,-5) 54(7.525,-4.5) 55(7.525,-4) 56(7.525,-3.5) 57(7.525,-3) 58(7.525,-2.5) 59(7.525,-2) 60(7.525,-1.5) 61(7.525,-1) 62(7.525,-0.5) 63(7.525,0) 64(7.525,0.5) 65(7.525,1) 66(7.525,1.5) 67(7.525,2) 68(7.525,2.5) 69(7.525,3) 70(7.525,3.5) 71(7.525,4) 72(7.525,4.5) 73(7.525,5) 74(7.525,5.5) 75(7.525,6)
  oval 0.25x1.55 smd: 26(-6,-7.525) 27(-5.5,-7.525) 28(-5,-7.525) 29(-4.5,-7.525) 30(-4,-7.525) 31(-3.5,-7.525) 32(-3,-7.525) 33(-2.5,-7.525) 34(-2,-7.525) 35(-1.5,-7.525) 36(-1,-7.525) 37(-0.5,-7.525) 38(0,-7.525) 39(0.5,-7.525) 40(1,-7.525) 41(1.5,-7.525) 42(2,-7.525) 43(2.5,-7.525) 44(3,-7.525) 45(3.5,-7.525) 46(4,-7.525) 47(4.5,-7.525) 48(5,-7.525) 49(5.5,-7.525) 50(6,-7.525) 76(6,7.525) 77(5.5,7.525) 78(5,7.525) 79(4.5,7.525) 80(4,7.525) 81(3.5,7.525) 82(3,7.525) 83(2.5,7.525) 84(2,7.525) 85(1.5,7.525) 86(1,7.525) 87(0.5,7.525) 88(0,7.525) 89(-0.5,7.525) 90(-1,7.525) 91(-1.5,7.525) 92(-2,7.525) 93(-2.5,7.525) 94(-3,7.525) 95(-3.5,7.525) 96(-4,7.525) 97(-4.5,7.525) 98(-5,7.525) 99(-5.5,7.525) 100(-6,7.525)
  rect 6.5x6.5 smd: 101(0,0)
via 1.5,1.5 diameter 0.5 hole 0.2
via 0.5,1.5 diameter 0.5 hole 0.2
via -1.5,1.5 diameter 0.5 hole 0.2
via -0.5,1.5 diameter 0.5 hole 0.2
via 1.5,0.5 diameter 0.5 hole 0.2
via 0.5,0.5 diameter 0.5 hole 0.2
via -1.5,0.5 diameter 0.5 hole 0.2
via -0.5,0.5 diameter 0.5 hole 0.2
via 1.5,-1.5 diameter 0.5 hole 0.2
via 0.5,-1.5 diameter 0.5 hole 0.2
via -1.5,-1.5 diameter 0.5 hole 0.2
via -0.5,-1.5 diameter 0.5 hole 0.2
via 1.5,-0.5 diameter 0.5 hole 0.2
via 0.5,-0.5 diameter 0.5 hole 0.2
via -1.5,-0.5 diameter 0.5 hole 0.2
via -0.5,-0.5 diameter 0.5 hole 0.2
Top Overlay:
  circle w0.6: c-5.35,5.35 r0.3
  circle w0.25: c-7.525,6.675 r0.125
  lines w0.2: -6.35,-6.35 6.35,-6.35 6.35,6.35 -6.35,6.35 -6.35,-6.35
Mechanical 13:
  circle w0.1: c-6.1,6.1 r0.5
  lines w0.1: -7,-7 7,-7 7,7 -7,7 -7,-7
Mechanical 15:
  lines w0.05: -8.4,-8.4 8.4,-8.4 8.4,8.4 -8.4,8.4 -8.4,-8.4
  lines w0.1: -0.5,0 0.5,0 ; 0,-0.5 0,0.5
3D body: height 1.2, standoff 0, extent -6.999,-6.999 6.999,6.999

## SV-100-1_M [mm] "Thin QFP, 100-Leads, Body 14x14mm, Pitch 0.5mm, Thermal Pad 6.5x6.5mm, IPC Low Density"
height 1.2
pads (101):
  oval 2.1x0.3 smd: 1(-7.6,6) 2(-7.6,5.5) 3(-7.6,5) 4(-7.6,4.5) 5(-7.6,4) 6(-7.6,3.5) 7(-7.6,3) 8(-7.6,2.5) 9(-7.6,2) 10(-7.6,1.5) 11(-7.6,1) 12(-7.6,0.5) 13(-7.6,0) 14(-7.6,-0.5) 15(-7.6,-1) 16(-7.6,-1.5) 17(-7.6,-2) 18(-7.6,-2.5) 19(-7.6,-3) 20(-7.6,-3.5) 21(-7.6,-4) 22(-7.6,-4.5) 23(-7.6,-5) 24(-7.6,-5.5) 25(-7.6,-6) 51(7.6,-6) 52(7.6,-5.5) 53(7.6,-5) 54(7.6,-4.5) 55(7.6,-4) 56(7.6,-3.5) 57(7.6,-3) 58(7.6,-2.5) 59(7.6,-2) 60(7.6,-1.5) 61(7.6,-1) 62(7.6,-0.5) 63(7.6,0) 64(7.6,0.5) 65(7.6,1) 66(7.6,1.5) 67(7.6,2) 68(7.6,2.5) 69(7.6,3) 70(7.6,3.5) 71(7.6,4) 72(7.6,4.5) 73(7.6,5) 74(7.6,5.5) 75(7.6,6)
  oval 0.3x2.1 smd: 26(-6,-7.6) 27(-5.5,-7.6) 28(-5,-7.6) 29(-4.5,-7.6) 30(-4,-7.6) 31(-3.5,-7.6) 32(-3,-7.6) 33(-2.5,-7.6) 34(-2,-7.6) 35(-1.5,-7.6) 36(-1,-7.6) 37(-0.5,-7.6) 38(0,-7.6) 39(0.5,-7.6) 40(1,-7.6) 41(1.5,-7.6) 42(2,-7.6) 43(2.5,-7.6) 44(3,-7.6) 45(3.5,-7.6) 46(4,-7.6) 47(4.5,-7.6) 48(5,-7.6) 49(5.5,-7.6) 50(6,-7.6) 76(6,7.6) 77(5.5,7.6) 78(5,7.6) 79(4.5,7.6) 80(4,7.6) 81(3.5,7.6) 82(3,7.6) 83(2.5,7.6) 84(2,7.6) 85(1.5,7.6) 86(1,7.6) 87(0.5,7.6) 88(0,7.6) 89(-0.5,7.6) 90(-1,7.6) 91(-1.5,7.6) 92(-2,7.6) 93(-2.5,7.6) 94(-3,7.6) 95(-3.5,7.6) 96(-4,7.6) 97(-4.5,7.6) 98(-5,7.6) 99(-5.5,7.6) 100(-6,7.6)
  rect 6.5x6.5 smd: 101(0,0)
via -0.5,-0.5 diameter 0.5 hole 0.2
via -1.5,-0.5 diameter 0.5 hole 0.2
via 0.5,-0.5 diameter 0.5 hole 0.2
via 1.5,-0.5 diameter 0.5 hole 0.2
via -0.5,-1.5 diameter 0.5 hole 0.2
via -1.5,-1.5 diameter 0.5 hole 0.2
via 0.5,-1.5 diameter 0.5 hole 0.2
via 1.5,-1.5 diameter 0.5 hole 0.2
via -0.5,0.5 diameter 0.5 hole 0.2
via -1.5,0.5 diameter 0.5 hole 0.2
via 0.5,0.5 diameter 0.5 hole 0.2
via 1.5,0.5 diameter 0.5 hole 0.2
via -0.5,1.5 diameter 0.5 hole 0.2
via -1.5,1.5 diameter 0.5 hole 0.2
via 0.5,1.5 diameter 0.5 hole 0.2
via 1.5,1.5 diameter 0.5 hole 0.2
Top Overlay:
  circle w0.6: c-5.15,5.15 r0.3
  circle w0.25: c-7.6,6.7 r0.125
  lines w0.2: -6.15,-6.15 6.15,-6.15 6.15,6.15 -6.15,6.15 -6.15,-6.15
Mechanical 13:
  circle w0.1: c-6.1,6.1 r0.5
  lines w0.1: -7,-7 7,-7 7,7 -7,7 -7,-7
Mechanical 15:
  lines w0.05: -9.15,-9.15 9.15,-9.15 9.15,9.15 -9.15,9.15 -9.15,-9.15
  lines w0.1: -0.5,0 0.5,0 -0.5,0 ; 0,-0.5 0,0.5 0,-0.5
3D body: height 1.2, standoff 0, extent -7,-7 7,7

## SV-100-1_N [mm] "Thin QFP, 100-Leads, Body 14x14mm, Pitch 0.5mm, Thermal Pad 6.5x6.5mm, IPC Medium Density"
height 1.2
pads (101):
  oval 1.8x0.3 smd: 1(-7.55,6) 2(-7.55,5.5) 3(-7.55,5) 4(-7.55,4.5) 5(-7.55,4) 6(-7.55,3.5) 7(-7.55,3) 8(-7.55,2.5) 9(-7.55,2) 10(-7.55,1.5) 11(-7.55,1) 12(-7.55,0.5) 13(-7.55,0) 14(-7.55,-0.5) 15(-7.55,-1) 16(-7.55,-1.5) 17(-7.55,-2) 18(-7.55,-2.5) 19(-7.55,-3) 20(-7.55,-3.5) 21(-7.55,-4) 22(-7.55,-4.5) 23(-7.55,-5) 24(-7.55,-5.5) 25(-7.55,-6) 51(7.55,-6) 52(7.55,-5.5) 53(7.55,-5) 54(7.55,-4.5) 55(7.55,-4) 56(7.55,-3.5) 57(7.55,-3) 58(7.55,-2.5) 59(7.55,-2) 60(7.55,-1.5) 61(7.55,-1) 62(7.55,-0.5) 63(7.55,0) 64(7.55,0.5) 65(7.55,1) 66(7.55,1.5) 67(7.55,2) 68(7.55,2.5) 69(7.55,3) 70(7.55,3.5) 71(7.55,4) 72(7.55,4.5) 73(7.55,5) 74(7.55,5.5) 75(7.55,6)
  oval 0.3x1.8 smd: 26(-6,-7.55) 27(-5.5,-7.55) 28(-5,-7.55) 29(-4.5,-7.55) 30(-4,-7.55) 31(-3.5,-7.55) 32(-3,-7.55) 33(-2.5,-7.55) 34(-2,-7.55) 35(-1.5,-7.55) 36(-1,-7.55) 37(-0.5,-7.55) 38(0,-7.55) 39(0.5,-7.55) 40(1,-7.55) 41(1.5,-7.55) 42(2,-7.55) 43(2.5,-7.55) 44(3,-7.55) 45(3.5,-7.55) 46(4,-7.55) 47(4.5,-7.55) 48(5,-7.55) 49(5.5,-7.55) 50(6,-7.55) 76(6,7.55) 77(5.5,7.55) 78(5,7.55) 79(4.5,7.55) 80(4,7.55) 81(3.5,7.55) 82(3,7.55) 83(2.5,7.55) 84(2,7.55) 85(1.5,7.55) 86(1,7.55) 87(0.5,7.55) 88(0,7.55) 89(-0.5,7.55) 90(-1,7.55) 91(-1.5,7.55) 92(-2,7.55) 93(-2.5,7.55) 94(-3,7.55) 95(-3.5,7.55) 96(-4,7.55) 97(-4.5,7.55) 98(-5,7.55) 99(-5.5,7.55) 100(-6,7.55)
  rect 6.5x6.5 smd: 101(0,0)
via -0.5,-0.5 diameter 0.5 hole 0.2
via -1.5,-0.5 diameter 0.5 hole 0.2
via 0.5,-0.5 diameter 0.5 hole 0.2
via 1.5,-0.5 diameter 0.5 hole 0.2
via -0.5,-1.5 diameter 0.5 hole 0.2
via -1.5,-1.5 diameter 0.5 hole 0.2
via 0.5,-1.5 diameter 0.5 hole 0.2
via 1.5,-1.5 diameter 0.5 hole 0.2
via -0.5,0.5 diameter 0.5 hole 0.2
via -1.5,0.5 diameter 0.5 hole 0.2
via 0.5,0.5 diameter 0.5 hole 0.2
via 1.5,0.5 diameter 0.5 hole 0.2
via -0.5,1.5 diameter 0.5 hole 0.2
via -1.5,1.5 diameter 0.5 hole 0.2
via 0.5,1.5 diameter 0.5 hole 0.2
via 1.5,1.5 diameter 0.5 hole 0.2
Top Overlay:
  circle w0.6: c-5.25,5.25 r0.3
  circle w0.25: c-7.55,6.7 r0.125
  lines w0.2: -6.25,-6.25 6.25,-6.25 6.25,6.25 -6.25,6.25 -6.25,-6.25
Mechanical 13:
  circle w0.1: c-6.1,6.1 r0.5
  lines w0.1: -7,-7 7,-7 7,7 -7,7 -7,-7
Mechanical 15:
  lines w0.05: -8.7,-8.7 8.7,-8.7 8.7,8.7 -8.7,8.7 -8.7,-8.7
  lines w0.1: -0.5,0 0.5,0 -0.5,0 ; 0,-0.5 0,0.5 0,-0.5
3D body: height 1.2, standoff 0, extent -7,-7 7,7

## SV-100-3_L [mm] "QFP, 100-Leads, Body 14x14mm, Pitch 0.5mm, Thermal Pad 9.5x9.5mm, IPC High Density"
height 1.2
pads (101):
  oval 1.55x0.25 smd: 1(-7.525,6) 2(-7.525,5.5) 3(-7.525,5) 4(-7.525,4.5) 5(-7.525,4) 6(-7.525,3.5) 7(-7.525,3) 8(-7.525,2.5) 9(-7.525,2) 10(-7.525,1.5) 11(-7.525,1) 12(-7.525,0.5) 13(-7.525,0) 14(-7.525,-0.5) 15(-7.525,-1) 16(-7.525,-1.5) 17(-7.525,-2) 18(-7.525,-2.5) 19(-7.525,-3) 20(-7.525,-3.5) 21(-7.525,-4) 22(-7.525,-4.5) 23(-7.525,-5) 24(-7.525,-5.5) 25(-7.525,-6) 51(7.525,-6) 52(7.525,-5.5) 53(7.525,-5) 54(7.525,-4.5) 55(7.525,-4) 56(7.525,-3.5) 57(7.525,-3) 58(7.525,-2.5) 59(7.525,-2) 60(7.525,-1.5) 61(7.525,-1) 62(7.525,-0.5) 63(7.525,0) 64(7.525,0.5) 65(7.525,1) 66(7.525,1.5) 67(7.525,2) 68(7.525,2.5) 69(7.525,3) 70(7.525,3.5) 71(7.525,4) 72(7.525,4.5) 73(7.525,5) 74(7.525,5.5) 75(7.525,6)
  oval 0.25x1.55 smd: 26(-6,-7.525) 27(-5.5,-7.525) 28(-5,-7.525) 29(-4.5,-7.525) 30(-4,-7.525) 31(-3.5,-7.525) 32(-3,-7.525) 33(-2.5,-7.525) 34(-2,-7.525) 35(-1.5,-7.525) 36(-1,-7.525) 37(-0.5,-7.525) 38(0,-7.525) 39(0.5,-7.525) 40(1,-7.525) 41(1.5,-7.525) 42(2,-7.525) 43(2.5,-7.525) 44(3,-7.525) 45(3.5,-7.525) 46(4,-7.525) 47(4.5,-7.525) 48(5,-7.525) 49(5.5,-7.525) 50(6,-7.525) 76(6,7.525) 77(5.5,7.525) 78(5,7.525) 79(4.5,7.525) 80(4,7.525) 81(3.5,7.525) 82(3,7.525) 83(2.5,7.525) 84(2,7.525) 85(1.5,7.525) 86(1,7.525) 87(0.5,7.525) 88(0,7.525) 89(-0.5,7.525) 90(-1,7.525) 91(-1.5,7.525) 92(-2,7.525) 93(-2.5,7.525) 94(-3,7.525) 95(-3.5,7.525) 96(-4,7.525) 97(-4.5,7.525) 98(-5,7.525) 99(-5.5,7.525) 100(-6,7.525)
  rect 9.5x9.5 smd: 101(0,0)
via 0.55,0.55 diameter 0.5 hole 0.2
via 0.55,-0.55 diameter 0.5 hole 0.2
via 0.55,1.65 diameter 0.5 hole 0.2
via 0.55,2.75 diameter 0.5 hole 0.2
via 0.55,3.85 diameter 0.5 hole 0.2
via 0.55,-1.65 diameter 0.5 hole 0.2
via 0.55,-2.75 diameter 0.5 hole 0.2
via 0.55,-3.85 diameter 0.5 hole 0.2
via 1.65,-3.85 diameter 0.5 hole 0.2
via 1.65,-2.75 diameter 0.5 hole 0.2
via 1.65,-1.65 diameter 0.5 hole 0.2
via 1.65,-0.55 diameter 0.5 hole 0.2
via 1.65,0.55 diameter 0.5 hole 0.2
via 1.65,1.65 diameter 0.5 hole 0.2
via 1.65,2.75 diameter 0.5 hole 0.2
via 1.65,3.85 diameter 0.5 hole 0.2
via 2.75,3.85 diameter 0.5 hole 0.2
via 2.75,2.75 diameter 0.5 hole 0.2
via 2.75,1.65 diameter 0.5 hole 0.2
via 2.75,0.55 diameter 0.5 hole 0.2
via 2.75,-0.55 diameter 0.5 hole 0.2
via 2.75,-1.65 diameter 0.5 hole 0.2
via 2.75,-2.75 diameter 0.5 hole 0.2
via 2.75,-3.85 diameter 0.5 hole 0.2
via 3.85,-3.85 diameter 0.5 hole 0.2
via 3.85,-2.75 diameter 0.5 hole 0.2
via 3.85,-1.65 diameter 0.5 hole 0.2
via 3.85,-0.55 diameter 0.5 hole 0.2
via 3.85,0.55 diameter 0.5 hole 0.2
via 3.85,1.65 diameter 0.5 hole 0.2
via 3.85,2.75 diameter 0.5 hole 0.2
via 3.85,3.85 diameter 0.5 hole 0.2
via -0.55,3.85 diameter 0.5 hole 0.2
via -0.55,2.75 diameter 0.5 hole 0.2
via -0.55,1.65 diameter 0.5 hole 0.2
via -0.55,0.55 diameter 0.5 hole 0.2
via -0.55,-0.55 diameter 0.5 hole 0.2
via -0.55,-1.65 diameter 0.5 hole 0.2
via -0.55,-2.75 diameter 0.5 hole 0.2
via -0.55,-3.85 diameter 0.5 hole 0.2
via -1.65,-3.85 diameter 0.5 hole 0.2
via -1.65,-2.75 diameter 0.5 hole 0.2
via -1.65,-1.65 diameter 0.5 hole 0.2
via -1.65,-0.55 diameter 0.5 hole 0.2
via -1.65,0.55 diameter 0.5 hole 0.2
via -1.65,1.65 diameter 0.5 hole 0.2
via -1.65,2.75 diameter 0.5 hole 0.2
via -1.65,3.85 diameter 0.5 hole 0.2
via -2.75,3.85 diameter 0.5 hole 0.2
via -2.75,2.75 diameter 0.5 hole 0.2
via -2.75,1.65 diameter 0.5 hole 0.2
via -2.75,0.55 diameter 0.5 hole 0.2
via -2.75,-0.55 diameter 0.5 hole 0.2
via -2.75,-1.65 diameter 0.5 hole 0.2
via -2.75,-2.75 diameter 0.5 hole 0.2
via -2.75,-3.85 diameter 0.5 hole 0.2
via -3.85,-3.85 diameter 0.5 hole 0.2
via -3.85,-2.75 diameter 0.5 hole 0.2
via -3.85,-1.65 diameter 0.5 hole 0.2
via -3.85,3.85 diameter 0.5 hole 0.2
via -3.85,2.75 diameter 0.5 hole 0.2
via -3.85,1.65 diameter 0.5 hole 0.2
via -3.85,-0.55 diameter 0.5 hole 0.2
via -3.85,0.55 diameter 0.5 hole 0.2
Top Overlay:
  circle w0.25: c-7.525,6.675 r0.125
  lines w0.2: -6.35,-6.35 6.35,-6.35 6.35,6.35 -6.35,6.35 -6.35,-6.35
Mechanical 13:
  circle w0.1: c-6.1,6.1 r0.5
  lines w0.1: -7,-7 7,-7 7,7 -7,7 -7,-7
Mechanical 15:
  lines w0.05: -8.4,-8.4 8.4,-8.4 8.4,8.4 -8.4,8.4 -8.4,-8.4
  lines w0.1: -0.5,0 0.5,0 ; 0,-0.5 0,0.5
3D body: height 1.2, standoff 0.05, extent -7,-7 7,7

## SV-100-3_M [mm] "QFP, 100-Leads, Body 14x14mm, Pitch 0.5mm, Thermal Pad 9.5x9.5mm, IPC Low Density"
height 1.2
pads (101):
  oval 2.1x0.3 smd: 1(-7.6,6) 2(-7.6,5.5) 3(-7.6,5) 4(-7.6,4.5) 5(-7.6,4) 6(-7.6,3.5) 7(-7.6,3) 8(-7.6,2.5) 9(-7.6,2) 10(-7.6,1.5) 11(-7.6,1) 12(-7.6,0.5) 13(-7.6,0) 14(-7.6,-0.5) 15(-7.6,-1) 16(-7.6,-1.5) 17(-7.6,-2) 18(-7.6,-2.5) 19(-7.6,-3) 20(-7.6,-3.5) 21(-7.6,-4) 22(-7.6,-4.5) 23(-7.6,-5) 24(-7.6,-5.5) 25(-7.6,-6) 51(7.6,-6) 52(7.6,-5.5) 53(7.6,-5) 54(7.6,-4.5) 55(7.6,-4) 56(7.6,-3.5) 57(7.6,-3) 58(7.6,-2.5) 59(7.6,-2) 60(7.6,-1.5) 61(7.6,-1) 62(7.6,-0.5) 63(7.6,0) 64(7.6,0.5) 65(7.6,1) 66(7.6,1.5) 67(7.6,2) 68(7.6,2.5) 69(7.6,3) 70(7.6,3.5) 71(7.6,4) 72(7.6,4.5) 73(7.6,5) 74(7.6,5.5) 75(7.6,6)
  oval 0.3x2.1 smd: 26(-6,-7.6) 27(-5.5,-7.6) 28(-5,-7.6) 29(-4.5,-7.6) 30(-4,-7.6) 31(-3.5,-7.6) 32(-3,-7.6) 33(-2.5,-7.6) 34(-2,-7.6) 35(-1.5,-7.6) 36(-1,-7.6) 37(-0.5,-7.6) 38(0,-7.6) 39(0.5,-7.6) 40(1,-7.6) 41(1.5,-7.6) 42(2,-7.6) 43(2.5,-7.6) 44(3,-7.6) 45(3.5,-7.6) 46(4,-7.6) 47(4.5,-7.6) 48(5,-7.6) 49(5.5,-7.6) 50(6,-7.6) 76(6,7.6) 77(5.5,7.6) 78(5,7.6) 79(4.5,7.6) 80(4,7.6) 81(3.5,7.6) 82(3,7.6) 83(2.5,7.6) 84(2,7.6) 85(1.5,7.6) 86(1,7.6) 87(0.5,7.6) 88(0,7.6) 89(-0.5,7.6) 90(-1,7.6) 91(-1.5,7.6) 92(-2,7.6) 93(-2.5,7.6) 94(-3,7.6) 95(-3.5,7.6) 96(-4,7.6) 97(-4.5,7.6) 98(-5,7.6) 99(-5.5,7.6) 100(-6,7.6)
  rect 9.5x9.5 smd: 101(0,0)
via 0.55,0.55 diameter 0.5 hole 0.2
via 0.55,-0.55 diameter 0.5 hole 0.2
via 0.55,1.65 diameter 0.5 hole 0.2
via 0.55,2.75 diameter 0.5 hole 0.2
via 0.55,3.85 diameter 0.5 hole 0.2
via 0.55,-1.65 diameter 0.5 hole 0.2
via 0.55,-2.75 diameter 0.5 hole 0.2
via 0.55,-3.85 diameter 0.5 hole 0.2
via 1.65,-3.85 diameter 0.5 hole 0.2
via 1.65,-2.75 diameter 0.5 hole 0.2
via 1.65,-1.65 diameter 0.5 hole 0.2
via 1.65,-0.55 diameter 0.5 hole 0.2
via 1.65,0.55 diameter 0.5 hole 0.2
via 1.65,1.65 diameter 0.5 hole 0.2
via 1.65,2.75 diameter 0.5 hole 0.2
via 1.65,3.85 diameter 0.5 hole 0.2
via 2.75,3.85 diameter 0.5 hole 0.2
via 2.75,2.75 diameter 0.5 hole 0.2
via 2.75,1.65 diameter 0.5 hole 0.2
via 2.75,0.55 diameter 0.5 hole 0.2
via 2.75,-0.55 diameter 0.5 hole 0.2
via 2.75,-1.65 diameter 0.5 hole 0.2
via 2.75,-2.75 diameter 0.5 hole 0.2
via 2.75,-3.85 diameter 0.5 hole 0.2
via 3.85,-3.85 diameter 0.5 hole 0.2
via 3.85,-2.75 diameter 0.5 hole 0.2
via 3.85,-1.65 diameter 0.5 hole 0.2
via 3.85,-0.55 diameter 0.5 hole 0.2
via 3.85,0.55 diameter 0.5 hole 0.2
via 3.85,1.65 diameter 0.5 hole 0.2
via 3.85,2.75 diameter 0.5 hole 0.2
via 3.85,3.85 diameter 0.5 hole 0.2
via -0.55,3.85 diameter 0.5 hole 0.2
via -0.55,2.75 diameter 0.5 hole 0.2
via -0.55,1.65 diameter 0.5 hole 0.2
via -0.55,0.55 diameter 0.5 hole 0.2
via -0.55,-0.55 diameter 0.5 hole 0.2
via -0.55,-1.65 diameter 0.5 hole 0.2
via -0.55,-2.75 diameter 0.5 hole 0.2
via -0.55,-3.85 diameter 0.5 hole 0.2
via -1.65,-3.85 diameter 0.5 hole 0.2
via -1.65,-2.75 diameter 0.5 hole 0.2
via -1.65,-1.65 diameter 0.5 hole 0.2
via -1.65,-0.55 diameter 0.5 hole 0.2
via -1.65,0.55 diameter 0.5 hole 0.2
via -1.65,1.65 diameter 0.5 hole 0.2
via -1.65,2.75 diameter 0.5 hole 0.2
via -1.65,3.85 diameter 0.5 hole 0.2
via -2.75,3.85 diameter 0.5 hole 0.2
via -2.75,2.75 diameter 0.5 hole 0.2
via -2.75,1.65 diameter 0.5 hole 0.2
via -2.75,0.55 diameter 0.5 hole 0.2
via -2.75,-0.55 diameter 0.5 hole 0.2
via -2.75,-1.65 diameter 0.5 hole 0.2
via -2.75,-2.75 diameter 0.5 hole 0.2
via -2.75,-3.85 diameter 0.5 hole 0.2
via -3.85,-3.85 diameter 0.5 hole 0.2
via -3.85,-2.75 diameter 0.5 hole 0.2
via -3.85,-1.65 diameter 0.5 hole 0.2
via -3.85,3.85 diameter 0.5 hole 0.2
via -3.85,2.75 diameter 0.5 hole 0.2
via -3.85,1.65 diameter 0.5 hole 0.2
via -3.85,-0.55 diameter 0.5 hole 0.2
via -3.85,0.55 diameter 0.5 hole 0.2
Top Overlay:
  circle w0.25: c-7.6,6.7 r0.125
  lines w0.2: -6.15,-6.15 -6.15,6.15 6.15,6.15 6.15,-6.15 -6.15,-6.15
Mechanical 13:
  circle w0.1: c-6.1,6.1 r0.5
  lines w0.1: -7,-7 -7,7 7,7 7,-7 -7,-7
Mechanical 15:
  lines w0.05: -9.15,-9.15 -9.15,9.15 9.15,9.15 9.15,-9.15 -9.15,-9.15
  lines w0.1: -0.5,0 0.5,0 ; 0,-0.5 0,0.5
3D body: height 1.2, standoff 0.05, extent -7,-7 7,7

## SV-100-3_N [mm] "QFP, 100-Leads, Body 14x14mm, Pitch 0.5mm, Thermal Pad 9.5x9.5mm, IPC Medium Density"
height 1.2
pads (101):
  oval 1.8x0.3 smd: 1(-7.55,6) 2(-7.55,5.5) 3(-7.55,5) 4(-7.55,4.5) 5(-7.55,4) 6(-7.55,3.5) 7(-7.55,3) 8(-7.55,2.5) 9(-7.55,2) 10(-7.55,1.5) 11(-7.55,1) 12(-7.55,0.5) 13(-7.55,0) 14(-7.55,-0.5) 15(-7.55,-1) 16(-7.55,-1.5) 17(-7.55,-2) 18(-7.55,-2.5) 19(-7.55,-3) 20(-7.55,-3.5) 21(-7.55,-4) 22(-7.55,-4.5) 23(-7.55,-5) 24(-7.55,-5.5) 25(-7.55,-6) 51(7.55,-6) 52(7.55,-5.5) 53(7.55,-5) 54(7.55,-4.5) 55(7.55,-4) 56(7.55,-3.5) 57(7.55,-3) 58(7.55,-2.5) 59(7.55,-2) 60(7.55,-1.5) 61(7.55,-1) 62(7.55,-0.5) 63(7.55,0) 64(7.55,0.5) 65(7.55,1) 66(7.55,1.5) 67(7.55,2) 68(7.55,2.5) 69(7.55,3) 70(7.55,3.5) 71(7.55,4) 72(7.55,4.5) 73(7.55,5) 74(7.55,5.5) 75(7.55,6)
  oval 0.3x1.8 smd: 26(-6,-7.55) 27(-5.5,-7.55) 28(-5,-7.55) 29(-4.5,-7.55) 30(-4,-7.55) 31(-3.5,-7.55) 32(-3,-7.55) 33(-2.5,-7.55) 34(-2,-7.55) 35(-1.5,-7.55) 36(-1,-7.55) 37(-0.5,-7.55) 38(0,-7.55) 39(0.5,-7.55) 40(1,-7.55) 41(1.5,-7.55) 42(2,-7.55) 43(2.5,-7.55) 44(3,-7.55) 45(3.5,-7.55) 46(4,-7.55) 47(4.5,-7.55) 48(5,-7.55) 49(5.5,-7.55) 50(6,-7.55) 76(6,7.55) 77(5.5,7.55) 78(5,7.55) 79(4.5,7.55) 80(4,7.55) 81(3.5,7.55) 82(3,7.55) 83(2.5,7.55) 84(2,7.55) 85(1.5,7.55) 86(1,7.55) 87(0.5,7.55) 88(0,7.55) 89(-0.5,7.55) 90(-1,7.55) 91(-1.5,7.55) 92(-2,7.55) 93(-2.5,7.55) 94(-3,7.55) 95(-3.5,7.55) 96(-4,7.55) 97(-4.5,7.55) 98(-5,7.55) 99(-5.5,7.55) 100(-6,7.55)
  rect 9.5x9.5 smd: 101(0,0)
via 0.55,0.55 diameter 0.5 hole 0.2
via 0.55,-0.55 diameter 0.5 hole 0.2
via 0.55,1.65 diameter 0.5 hole 0.2
via 0.55,2.75 diameter 0.5 hole 0.2
via 0.55,3.85 diameter 0.5 hole 0.2
via 0.55,-1.65 diameter 0.5 hole 0.2
via 0.55,-2.75 diameter 0.5 hole 0.2
via 0.55,-3.85 diameter 0.5 hole 0.2
via 1.65,-3.85 diameter 0.5 hole 0.2
via 1.65,-2.75 diameter 0.5 hole 0.2
via 1.65,-1.65 diameter 0.5 hole 0.2
via 1.65,-0.55 diameter 0.5 hole 0.2
via 1.65,0.55 diameter 0.5 hole 0.2
via 1.65,1.65 diameter 0.5 hole 0.2
via 1.65,2.75 diameter 0.5 hole 0.2
via 1.65,3.85 diameter 0.5 hole 0.2
via 2.75,3.85 diameter 0.5 hole 0.2
via 2.75,2.75 diameter 0.5 hole 0.2
via 2.75,1.65 diameter 0.5 hole 0.2
via 2.75,0.55 diameter 0.5 hole 0.2
via 2.75,-0.55 diameter 0.5 hole 0.2
via 2.75,-1.65 diameter 0.5 hole 0.2
via 2.75,-2.75 diameter 0.5 hole 0.2
via 2.75,-3.85 diameter 0.5 hole 0.2
via 3.85,-3.85 diameter 0.5 hole 0.2
via 3.85,-2.75 diameter 0.5 hole 0.2
via 3.85,-1.65 diameter 0.5 hole 0.2
via 3.85,-0.55 diameter 0.5 hole 0.2
via 3.85,0.55 diameter 0.5 hole 0.2
via 3.85,1.65 diameter 0.5 hole 0.2
via 3.85,2.75 diameter 0.5 hole 0.2
via 3.85,3.85 diameter 0.5 hole 0.2
via -0.55,3.85 diameter 0.5 hole 0.2
via -0.55,2.75 diameter 0.5 hole 0.2
via -0.55,1.65 diameter 0.5 hole 0.2
via -0.55,0.55 diameter 0.5 hole 0.2
via -0.55,-0.55 diameter 0.5 hole 0.2
via -0.55,-1.65 diameter 0.5 hole 0.2
via -0.55,-2.75 diameter 0.5 hole 0.2
via -0.55,-3.85 diameter 0.5 hole 0.2
via -1.65,-3.85 diameter 0.5 hole 0.2
via -1.65,-2.75 diameter 0.5 hole 0.2
via -1.65,-1.65 diameter 0.5 hole 0.2
via -1.65,-0.55 diameter 0.5 hole 0.2
via -1.65,0.55 diameter 0.5 hole 0.2
via -1.65,1.65 diameter 0.5 hole 0.2
via -1.65,2.75 diameter 0.5 hole 0.2
via -1.65,3.85 diameter 0.5 hole 0.2
via -2.75,3.85 diameter 0.5 hole 0.2
via -2.75,2.75 diameter 0.5 hole 0.2
via -2.75,1.65 diameter 0.5 hole 0.2
via -2.75,0.55 diameter 0.5 hole 0.2
via -2.75,-0.55 diameter 0.5 hole 0.2
via -2.75,-1.65 diameter 0.5 hole 0.2
via -2.75,-2.75 diameter 0.5 hole 0.2
via -2.75,-3.85 diameter 0.5 hole 0.2
via -3.85,-3.85 diameter 0.5 hole 0.2
via -3.85,-2.75 diameter 0.5 hole 0.2
via -3.85,-1.65 diameter 0.5 hole 0.2
via -3.85,3.85 diameter 0.5 hole 0.2
via -3.85,2.75 diameter 0.5 hole 0.2
via -3.85,1.65 diameter 0.5 hole 0.2
via -3.85,-0.55 diameter 0.5 hole 0.2
via -3.85,0.55 diameter 0.5 hole 0.2
Top Overlay:
  circle w0.25: c-7.55,6.7 r0.125
  lines w0.2: -6.25,-6.25 6.25,-6.25 6.25,6.25 -6.25,6.25 -6.25,-6.25
Mechanical 13:
  circle w0.1: c-6.1,6.1 r0.5
  lines w0.1: -7,-7 7,-7 7,7 -7,7 -7,-7
Mechanical 15:
  lines w0.05: -8.7,-8.7 8.7,-8.7 8.7,8.7 -8.7,8.7 -8.7,-8.7
  lines w0.1: -0.5,0 0.5,0 ; 0,-0.5 0,0.5
3D body: height 1.2, standoff 0.05, extent -7,-7 7,7

## UJ-6_L [mm] "SOT23, 6-Leads, Body 2.9x1.6mm, Pitch 0.95mm, Lead Span 2.8mm, IPC High Density"
height 1
pads (6):
  rect 0.9x0.65 smd: 1(-1.2,0.95) 2(-1.2,0) 3(-1.2,-0.95) 4(1.2,-0.95) 5(1.2,0) 6(1.2,0.95)
Top Overlay:
  circle w0.25: c-1.2,1.825 r0.125
  lines w0.2: -0.35,-1.5 -0.35,1.5 0.35,1.5 0.35,-1.5 -0.35,-1.5
Mechanical 13:
  lines w0.1: -0.85,-1.5 0.85,-1.5 0.85,1.5 -0.85,1.5 -0.85,-1.5
Mechanical 15:
  lines w0.05: -1.75,-1.6 1.75,-1.6 1.75,1.6 -1.75,1.6 -1.75,-1.6
  lines w0.1: -0.5,0 0.5,0 ; 0,-0.5 0,0.5
3D body: height 1, standoff 0, extent -0.85,-1.5 0.85,1.5

## UJ-6_M [mm] "SOT23, 6-Leads, Body 2.9x1.6mm, Pitch 0.95mm, Lead Span 2.8mm, IPC Low Density"
height 1
pads (6):
  rect 1.3x0.7 smd: 1(-1.2,0.95) 2(-1.2,0) 3(-1.2,-0.95) 4(1.2,-0.95) 5(1.2,0) 6(1.2,0.95)
Top Overlay:
  circle w0.25: c-1.2,1.85 r0.125
  lines w0.2: -0.15,-1.5 0.15,-1.5 0.15,1.5 -0.15,1.5 -0.15,-1.5
Mechanical 13:
  lines w0.1: -0.85,-1.5 -0.85,1.5 0.85,1.5 0.85,-1.5 -0.85,-1.5
Mechanical 15:
  lines w0.05: -2.35,-2 -2.35,2 2.35,2 2.35,-2 -2.35,-2
  lines w0.1: -0.5,0 0.5,0 ; 0,-0.5 0,0.5
3D body: height 1, standoff 0, extent -0.85,-1.5 0.85,1.5